# Altium schematic symbol library SCH - RF - AMPLIFIER - SKYWORKS SKY67183-396LF.SCHLIB: 1 symbol
Pins are listed as number, name and electrical type; pins without a type are passive.

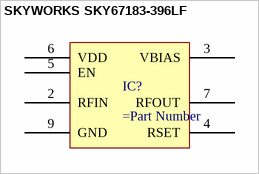
[diagram p0: symbol SKYWORKS SKY67183-396LF]

## SKYWORKS SKY67183-396LF
designator IC?
pins: 2 RFIN, 3 VBIAS, 4 RSET, 5 EN, 6 VDD, 7 RFOUT, 9 GND